# EAGLE library part LT8304 (library nixiemisc)
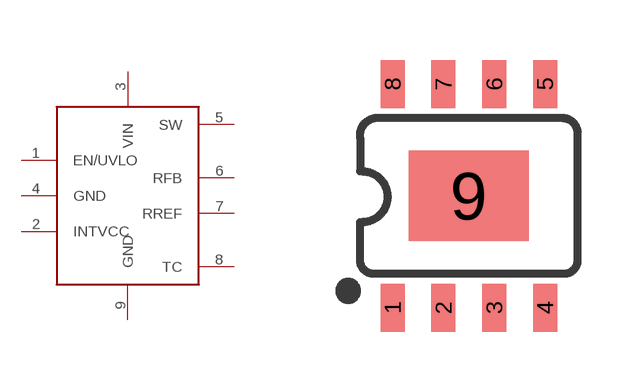
[diagram p10: symbol with the pads of S8E; footprint S8E]

Designator prefix U

## LT8304  [S8E]
1  EN/UVLO  pas
2  INTVCC  pas
3  VIN  pwr
4  GND  pwr
5  SW  pas
6  RFB  pas
7  RREF  pwr
8  TC  pas
9  GND  pwr

## Footprint S8E (pad centres in mm)
SOIC, 0.15 inch width
smd 0.6 x 1.2: 1 -1.905,-2.8; 2 -0.635,-2.8; 3 0.635,-2.8; 4 1.905,-2.8; 5 1.905,2.8; 6 0.635,2.8; 7 -0.635,2.8; 8 -1.905,2.8
smd 2.997 x 2.261: 9 0,0